# Altium footprint library 2_Smoke_detector.PcbLib: 28 footprints (part 1 of 2)
Each footprint in its own frame and in the unit in brackets; x right, y up, seen from the top. Pads: shape width x height; smd on the part's side, far side on the other; paste and mask are expansions set on the pad; w line width, h text height; cw(c..) or ccw(c..) is an arc to the next point about the centre after c.
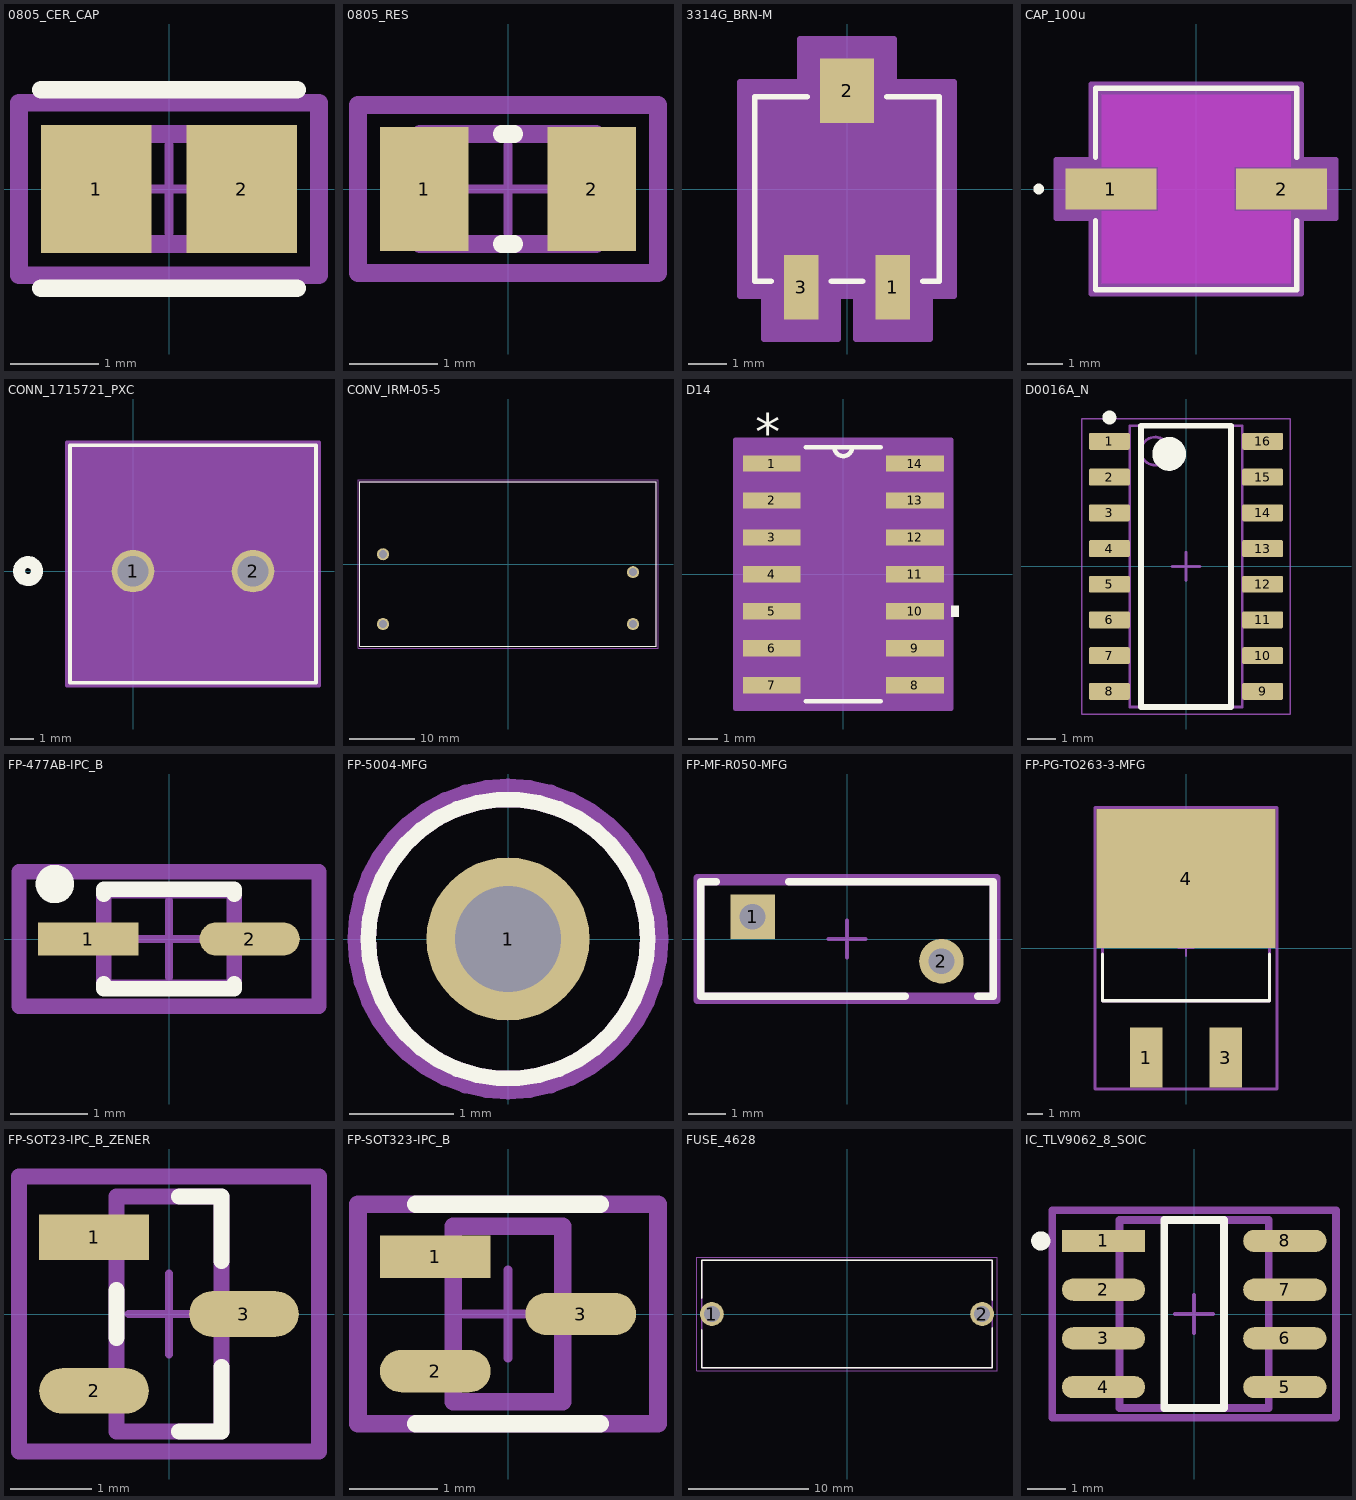
[diagram p0: the footprints below, top view; thin cyan lines are the x and y axes]

## 0805_CER_CAP [mil] "0805 CER CAP"
pads (2):
  rect 49.4x57.33 smd paste+0 mask+0: 1(-32.51,0) 2(32.51,0)
Top Overlay:
  lines w7.87: -57.21,-44.41 57.21,-44.41 ; -57.21,44.41 57.21,44.41
Top 3D Body:
  lines w7.87: -39.37,-24.61 39.37,-24.61 39.37,24.61 -39.37,24.61 -39.37,-24.61
Top Courtyard:
  lines w7.87: -67.05,-38.51 67.05,-38.51 67.05,38.51 -67.05,38.51 -67.05,-38.51
Top Assembly:
  lines w7.87: -67.05,-38.51 67.05,-38.51 67.05,38.51 -67.05,38.51 -67.05,-38.51
Top Component Center:
  lines w3.94: -19.68,0 19.68,0 ; 0,-19.68 0,19.68
3D body "Cap_Murata_GRM21BC71C106KE11L_eec.STEP": height 10, standoff 0, extent -67.05,-38.51 67.05,38.51

## 0805_RES [mil]
pads (2):
  rect 39.63x55.44 smd paste+0 mask+0: 1(-37.44,0) 2(37.44,0)
Top Overlay:
  lines w7.87: -2.86,-24.61 2.86,-24.61 ; -2.86,24.61 2.86,24.61
Top 3D Body:
  lines w7.87: -39.37,-24.61 39.37,-24.61 39.37,24.61 -39.37,24.61 -39.37,-24.61
Top Courtyard:
  lines w7.87: -67.09,-37.56 67.09,-37.56 67.09,37.56 -67.09,37.56 -67.09,-37.56
Top Assembly:
  lines w7.87: -67.09,-37.56 67.09,-37.56 67.09,37.56 -67.09,37.56 -67.09,-37.56
Top Component Center:
  lines w3.94: -19.68,0 19.68,0 ; 0,-19.68 0,19.68
3D body "Res_Vishay_Dale_CRCW08055K23FKTA_eec.STEP": height 10, standoff 0, extent -67.09,-37.56 67.09,37.56

## 3314G_BRN-M [mil]
pads (3):
  rect 35x65 smd paste+0 mask+0: 1(46.5,-99.5) 3(-46.5,-99.5)
  rect 55x65 smd paste+0 mask+0: 2(0,99.5)
Top Overlay:
  lines w6: -77.1,-93.5 -93.5,-93.5 -93.5,93.5 -40.6,93.5 ; -15.9,-93.5 15.9,-93.5 ; 40.6,93.5 93.5,93.5 93.5,-93.5 77.1,-93.5
Mechanical 13:
  circle w0: c46.5,-78.5 r5
  lines w1: -88.5,-88.5 88.5,-88.5 88.5,88.5 -88.5,88.5 -88.5,-88.5 ; -64,-122 -29,-122 -29,-88.5 -64,-88.5 -64,-122 ; -27.5,88.5 -27.5,122 27.5,122 27.5,88.5 -27.5,88.5 ; 29,-122 64,-122 64,-88.5 29,-88.5 29,-122
Mechanical 15:
  region: -84,-108.5 -108.5,-108.5 -108.5,108.5 -47.5,108.5 -47.5,152 47.5,152 47.5,108.5 108.5,108.5 108.5,-108.5 84,-108.5 84,-152 9,-152 9,-108.5 -9,-108.5 -9,-152 -84,-152
  lines w6: -108.5,-108.5 -84,-108.5 -84,-152 -9,-152 -9,-108.5 9,-108.5 9,-152 84,-152 84,-108.5 108.5,-108.5 108.5,108.5 47.5,108.5 47.5,152 -47.5,152 -47.5,108.5 -108.5,108.5 -108.5,-108.5
3D body "3314G1.stp": height 105.46, standoff -2, extent -98.41,-122 98.41,122

## CAP_100u [mil] "EEE-FT1C101AR"
pads (2):
  rect 102.75x45.75 smd paste+0 mask+0: 1(-96.31,0) 2(96.31,0)
Top Layer keep-out:
  region: -106.5,-106.5 -106.5,-24.87 106.5,-24.87 106.5,-106.5
  region: -106.5,24.87 -106.5,106.5 106.5,106.5 106.5,24.87
  region: -42.94,-24.87 -42.94,24.87 42.94,24.87 42.94,-24.87
Top Overlay:
  circle w6: c-177.69,0 r3
  lines w6: -113.5,-35.97 -113.5,-113.5 113.5,-113.5 113.5,-35.97 ; -113.5,35.97 -113.5,113.5 113.5,113.5 113.5,35.97
Keep-Out Layer:
  region: -42.94,-24.87 -42.94,24.87 42.94,24.87 42.94,-24.87
Top 3D Body:
  circle w1: c-88.5,0 r3
  lines w1: -108.5,-54.25 -54.25,-108.5 ; -108.5,54.25 -54.25,108.5 ; -108.5,-108.5 -108.5,108.5 108.5,108.5 108.5,-108.5 -108.5,-108.5
Top Courtyard:
  region: -118.5,-32.87 -157.69,-32.87 -157.69,32.87 -118.5,32.87 -118.5,118.5 118.5,118.5 118.5,32.87 157.69,32.87 157.69,-32.87 118.5,-32.87 118.5,-118.5 -118.5,-118.5
  lines w6: -157.69,-32.87 -118.5,-32.87 -118.5,-118.5 118.5,-118.5 118.5,-32.87 157.69,-32.87 157.69,32.87 118.5,32.87 118.5,118.5 -118.5,118.5 -118.5,32.87 -157.69,32.87 -157.69,-32.87
3D body "CAP_PAN_EEE_C_PAN.step": height 242.09, standoff 0, extent -127.99,-108.5 127.99,108.5

## CONN_1715721_PXC [mil]
pads (2):
  round 71 / inner round 60 / far side round 71 hole 51 paste-99999 mask+0: 1(0,0) 2(200,0)
Top Overlay:
  circle w20: c-175,0 r15
  lines w6: -105,-186.1 -105,209.72 305,209.72 305,-186.1 -105,-186.1
Bottom Overlay:
  circle w20: c-175,0 r15
Top 3D Body:
  circle w20: c0,75 r15
  lines w1: -100,-181.1 -100,204.72 300,204.72 300,-181.1 -100,-181.1
Top Courtyard:
  region: 310,214.72 -110,214.72 -110,-191.1 310,-191.1
  lines w6: -110,-191.1 310,-191.1 310,214.72 -110,214.72 -110,-191.1
3D body "1715721.stp": height 559.06, standoff -137.8, extent -125,-183.5 297.44,203.5

## CONV_IRM-05-5 [mm]
pads (4):
  round 1.86 hole 1.24: AC/L(-19.25,-9.25) AC/N(-19.25,1.5) VNEG(19.25,-9.25) VPOS(19.25,-1.25)
Top Overlay:
  lines w0.127: -22.85,-12.7 22.85,-12.7 22.85,12.7 -22.85,12.7 -22.85,-12.7
Top 3D Body:
  lines w0.127: -22.85,-12.7 22.85,-12.7 22.85,12.7 -22.85,12.7 -22.85,-12.7
Top Courtyard:
  lines w0.05: -23.1,-12.95 23.1,-12.95 23.1,12.95 -23.1,12.95 -23.1,-12.95
3D body "IRM-05-5--3DModel-STEP-56544.STEP": height 20.51, standoff -5.49, extent -22.733,-12.954 22.967,12.446

## D14 [mil]
pads (14):
  rect 78x22 smd paste-39 mask-39: 1(-97,150) 2(-97,100) 3(-97,50) 4(-97,0) 5(-97,-50) 6(-97,-100) 7(-97,-150) 8(97,-150) 9(97,-100) 10(97,-50) 11(97,0) 12(97,50) 13(97,100) 14(97,150)
Top Overlay:
  region: 146,-42.5 156,-42.5 156,-57.5 146,-57.5
  lines w6: -50.89,-172 50.89,-172 ; -50.89,172 50.89,172 ; -12,172 ccw(c0,172) 12,172
  text "*" at -119.5,167 h50
Mechanical 13:
  lines w1: -12,172 ccw(c0,172) 12,172 ; -122,-160 -122,-140 -78.5,-140 -78.5,-160 -122,-160 ; -122,-110 -122,-90 -78.5,-90 -78.5,-110 -122,-110 ; -122,-60 -122,-40 -78.5,-40 -78.5,-60 -122,-60 ; -122,-10 -122,10 -78.5,10 -78.5,-10 -122,-10 ; -122,40 -122,60 -78.5,60 -78.5,40 -122,40 ; -122,90 -122,110 -78.5,110 -78.5,90 -122,90 ; -122,140 -122,160 -78.5,160 -78.5,140 -122,140 ; -78.5,-172 78.5,-172 78.5,172 -78.5,172 -78.5,-172 ; 78.5,-160 78.5,-140 122,-140 122,-160 78.5,-160 ; 78.5,-110 78.5,-90 122,-90 122,-110 78.5,-110 ; 78.5,-60 78.5,-40 122,-40 122,-60 78.5,-60 ; 78.5,-10 78.5,10 122,10 122,-10 78.5,-10 ; 78.5,40 78.5,60 122,60 122,40 78.5,40 ; 78.5,90 78.5,110 122,110 122,90 78.5,90 ; 78.5,140 78.5,160 122,160 122,140 78.5,140
  text "*" at -119.5,167 h50
Mechanical 15:
  region: 146,-182 -146,-182 -146,182 146,182
  lines w6: -146,-182 -146,182 146,182 146,-182 -146,-182
3D body "D14.step": height 69.09, standoff 0, extent -122.01,-172.01 122.01,172.01

## D0016A_N [mm] "SOIC, 16-Leads, Body 10x4mm, Pitch 1.27mm, IPC Medium Density"
height 1.75
pads (16):
  rrect17% 1.45x0.6 smd: 1(-2.725,4.445) 2(-2.725,3.175) 3(-2.725,1.905) 4(-2.725,0.635) 5(-2.725,-0.635) 6(-2.725,-1.905) 7(-2.725,-3.175) 8(-2.725,-4.445) 9(2.725,-4.445) 10(2.725,-3.175) 11(2.725,-1.905) 12(2.725,-0.635) 13(2.725,0.635) 14(2.725,1.905) 15(2.725,3.175) 16(2.725,4.445)
Top Overlay:
  circle w0.6: c-0.6,4 r0.3
  circle w0.25: c-2.725,5.295 r0.125
  lines w0.2: -1.6,-5 1.6,-5 1.6,5 -1.6,5 -1.6,-5
Mechanical 13:
  circle w0.1: c-1.1,4.1 r0.5
  lines w0.1: -2,-5 2,-5 2,5 -2,5 -2,-5
Mechanical 15:
  lines w0.05: -3.7,-5.25 3.7,-5.25 3.7,5.25 -3.7,5.25 -3.7,-5.25
  lines w0.1: -0.5,0 0.5,0 ; 0,-0.5 0,0.5
3D body "SOIC-16akaD0016AakaM16A.stp": height 1.59, standoff -0.01, extent -2.997,-4.953 2.997,4.953

## FP-477AB-IPC_B [mil]
pads (2):
  rect 51.4x17.03 smd paste+0 mask+0: 1(-41.35,0)
  rrect100% 51.4x17.03 smd paste+0 mask+0: 2(41.35,0)
Top Overlay:
  circle w9.84: c-58.48,28.2 r4.92
  lines w7.87: -33.46,-23.03 -33.46,-25.59 33.46,-25.59 33.46,-23.03 ; -33.46,23.03 -33.46,25.59 33.46,25.59 33.46,23.03
Top 3D Body:
  lines w7.87: -33.46,-24.61 -33.46,24.61 33.46,24.61 33.46,-24.61 -33.46,-24.61
Top Courtyard:
  lines w7.87: -76.89,-34.45 -76.89,34.45 76.89,34.45 76.89,-34.45 -76.89,-34.45
Top Assembly:
  lines w7.87: -76.89,-34.45 -76.89,34.45 76.89,34.45 76.89,-34.45 -76.89,-34.45
Top Component Center:
  lines w3.94: -19.68,0 19.68,0 ; 0,-19.68 0,19.68
3D body "Diode_ON_Semiconductor_1N4148WS_eec.STEP": height 10, standoff 0, extent -76.89,-34.45 76.89,34.45

## FP-5004-MFG [mm]
pads (1):
  round 1.57 hole 1.02 paste-2539.97 mask+0: 1(0,0)
Top Overlay:
  circle w0.15: c0,0 r1.345
Top 3D Body:
  circle w0.15: c0,0 r1.345
Top Courtyard:
  lines w0.2: -1.445,0 ccw(c0,0) 1.445,0 ccw(c0,0) -1.445,0
Top Component Center:
  lines w0.1: -0.5,0 0.5,0 ; 0,-0.5 0,0.5
3D body "Conn_Keystone_5004_eec.STEP": height 0.25, standoff 0, extent -1.445,-1.445 1.445,1.445

## FP-MF-R050-MFG [mm]
pads (2):
  rect 1.2x1.2 hole 0.7 paste-2539.97 mask+0: 1(-2.55,0.6)
  round 1.2 hole 0.7 paste-2539.97 mask+0: 2(2.55,-0.6)
Top Overlay:
  lines w0.2: -3.525,1.55 -3.95,1.55 -3.95,-1.55 1.575,-1.55 ; -1.575,1.55 3.95,1.55 3.95,-1.55 3.525,-1.55
Top 3D Body:
  lines w0.2: -3.95,-1.55 -3.95,1.55 3.95,1.55 3.95,-1.55 -3.95,-1.55
Top Courtyard:
  lines w0.2: -4.05,-1.65 -4.05,1.65 4.05,1.65 4.05,-1.65 -4.05,-1.65
Top Assembly:
  lines w0.2: -4.05,-1.65 -4.05,1.65 4.05,1.65 4.05,-1.65 -4.05,-1.65
Top Component Center:
  lines w0.1: -0.5,0 0.5,0 ; 0,-0.5 0,0.5
3D body "Fuse_Bourns_MF-R050_eec.STEP": height 0.25, standoff 0, extent -4.05,-1.65 4.05,1.65

## FP-PG-TO263-3-MFG [mm]
pads (3):
  rect 2.08x3.81 smd paste+0 mask+0: 1(-2.54,-6.985) 3(2.54,-6.985)
  rect 11.43x8.89 smd paste+0 mask+0: 4(0,4.445)
Top Overlay:
  lines w0.2: -5.335,-0.375 -5.335,-3.36 5.335,-3.36 5.335,-0.375
Top 3D Body:
  lines w0.2: -5.335,-3.36 -5.335,6.29 5.335,6.29 5.335,-3.36 -5.335,-3.36
Top Courtyard:
  lines w0.2: -5.815,-8.99 -5.815,8.99 5.815,8.99 5.815,-8.99 -5.815,-8.99
Top Assembly:
  lines w0.2: -5.815,-8.99 -5.815,8.99 5.815,8.99 5.815,-8.99 -5.815,-8.99
  text ".Designator" at 0,0 h1
Top Component Center:
  lines w0.1: -0.5,0 0.5,0 ; 0,-0.5 0,0.5
3D body "Trans_Infineon_IRF2805STRLPBF_eec.STEP": height 0.25, standoff 0, extent -5.815,-8.99 5.815,8.99

## FP-SOT23-IPC_B_ZENER [mm]
pads (3):
  rect 1.355x0.562 smd paste+0 mask+0: 1(-0.925,0.95)
  rrect100% 1.355x0.562 smd paste+0 mask+0: 2(-0.925,-0.95) 3(0.925,0)
Top Overlay:
  lines w0.2: -0.65,-0.294 -0.65,0.294 ; 0.127,-1.45 0.65,-1.45 0.65,-0.656 ; 0.127,1.45 0.65,1.45 0.65,0.656
Top 3D Body:
  lines w0.2: -0.65,-1.45 0.65,-1.45 0.65,1.45 -0.65,1.45 -0.65,-1.45
Top Courtyard:
  lines w0.2: -1.853,-1.7 1.853,-1.7 1.853,1.7 -1.853,1.7 -1.853,-1.7
Top Assembly:
  lines w0.2: -1.853,-1.7 1.853,-1.7 1.853,1.7 -1.853,1.7 -1.853,-1.7
Top Component Center:
  lines w0.1: -0.5,0 0.5,0 ; 0,-0.5 0,0.5
3D body "Diode_Nexperia_BZX84-C3V3_215_eec.STEP": height 0.25, standoff 0, extent -1.853,-1.7 1.853,1.7

## FP-SOT323-IPC_B [mm]
pads (3):
  rect 1.259x0.482 smd paste+0 mask+0: 1(-0.827,0.65)
  rrect100% 1.259x0.482 smd paste+0 mask+0: 2(-0.827,-0.65) 3(0.827,0)
Top Overlay:
  lines w0.2: -1.05,-1.25 1.05,-1.25 ; -1.05,1.25 1.05,1.25
Top 3D Body:
  lines w0.2: -0.625,-1 -0.625,1 0.625,1 0.625,-1 -0.625,-1
Top Courtyard:
  lines w0.2: -1.706,-1.25 -1.706,1.25 1.706,1.25 1.706,-1.25 -1.706,-1.25
Top Assembly:
  lines w0.2: -1.706,-1.25 -1.706,1.25 1.706,1.25 1.706,-1.25 -1.706,-1.25
Top Component Center:
  lines w0.1: -0.5,0 0.5,0 ; 0,-0.5 0,0.5
3D body "Trans_Nexperia_BC847BW_115_eec.STEP": height 0.25, standoff 0, extent -1.706,-1.25 1.706,1.25

## FUSE_4628 [mm]
height 11.99
pads (2):
  round 1.98 hole 1.32: 1(-11.25,0) 2(11.25,0)
Top Overlay:
  lines w0.127: -12.105,-1.32 -12.105,-4.495 12.105,-4.495 12.105,-1.15 ; -12.105,1.32 -12.105,4.495 12.105,4.495 12.105,1.15
Top 3D Body:
  lines w0.127: -12.105,-4.495 -12.105,4.495 12.105,4.495 12.105,-4.495 -12.105,-4.495
Top Courtyard:
  lines w0.05: -12.49,-4.745 -12.49,4.745 12.49,4.745 12.49,-4.745 -12.49,-4.745
3D body "step_temp.STEP": height 11.99, standoff -3.96, extent -12.103,-4.496 12.103,4.496

## IC_TLV9062_8_SOIC [mil]
pads (8):
  rect 85.4x22.92 smd paste+0 mask+0: 1(-93.06,75)
  rrect100% 85.4x22.92 smd paste+0 mask+0: 2(-93.06,25) 3(-93.06,-25) 4(-93.06,-75) 5(93.06,-75) 6(93.06,-25) 7(93.06,25) 8(93.06,75)
Top Overlay:
  circle w9.84: c-157.41,75 r4.92
  lines w7.87: -30.67,-96.56 30.67,-96.56 30.67,96.56 -30.67,96.56 -30.67,-96.56
Top 3D Body:
  lines w7.87: -76.67,-96.56 76.67,-96.56 76.67,96.56 -76.67,96.56 -76.67,-96.56
Top Courtyard:
  lines w7.87: -145.6,-106.4 145.6,-106.4 145.6,106.4 -145.6,106.4 -145.6,-106.4
Top Assembly:
  lines w7.87: -145.6,-106.4 145.6,-106.4 145.6,106.4 -145.6,106.4 -145.6,-106.4
Top Component Center:
  lines w3.94: -19.68,0 19.68,0 ; 0,-19.68 0,19.68
3D body "IC_Texas_Instruments_ISO7220ADR_eec.STEP": height 10, standoff 0, extent -145.6,-106.4 145.6,106.4